# EAGLE library part MCP250* (library microchip)
CAN-IO Expander series with GPIOs, PWM, A/D converters and One Wire Digital CANbus
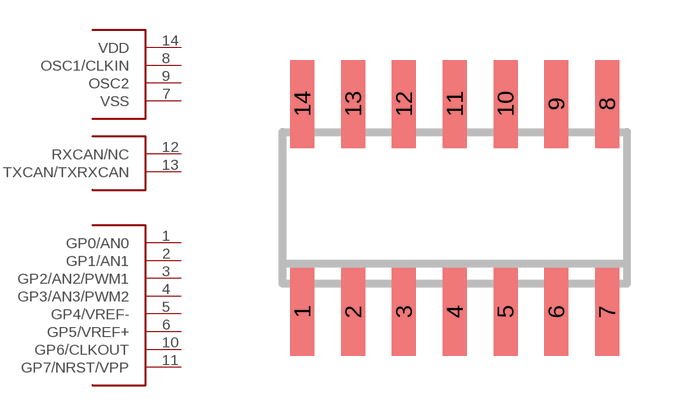
[diagram p0: symbol with the pads of SO-14; footprint SO-14]

Designator prefix IC; gates G$1=MCP250XX_PWR G$2=MCP250XX_GPIO G$3=MCP250XX_CON

## MCP25020 (AD-CONVERTER: No; ONE-WIRE-DIGITAL-CANBUS: No), MCP25025 (AD-CONVERTER: No; ONE-WIRE-DIGITAL-CANBUS: Yes), MCP25050 (AD-CONVERTER: Yes; ONE-WIRE-DIGITAL-CANBUS: No), MCP25055 (AD-CONVERTER: Yes; ONE-WIRE-DIGITAL-CANBUS: Yes)  [SO-14]
1  G$2:GP0/AN0
2  G$2:GP1/AN1
3  G$2:GP2/AN2/PWM1
4  G$2:GP3/AN3/PWM2
5  G$2:GP4/VREF-
6  G$2:GP5/VREF+
7  G$1:VSS  pwr
8  G$1:OSC1/CLKIN  pas
9  G$1:OSC2  pas
10  G$2:GP6/CLKOUT
11  G$2:GP7/NRST/VPP
12  G$3:RXCAN/NC
13  G$3:TXCAN/TXRXCAN
14  G$1:VDD  pwr

## Footprint SO-14 (pad centres in mm)
Small Outline Narrow Plastic Gull Wing 150-mil body, package type SL
smd 0.6 x 2.2: 1 -3.81,-2.6; 2 -2.54,-2.6; 3 -1.27,-2.6; 4 0,-2.6; 5 1.27,-2.6; 6 2.54,-2.6; 7 3.81,-2.6; 8 3.81,2.6; 9 2.54,2.6; 10 1.27,2.6; 11 0,2.6; 12 -1.27,2.6; 13 -2.54,2.6; 14 -3.81,2.6